# EAGLE library part SLW-116-01-T-D (library SLW-116-01-T-D)
32 Position, .100" Tiger Buy™ Low Profile Socket Strip, Single-Row Source: Datasheet <http://suddendocs.samtec.com/prints/slw-1xx-01-x-x-mkt.pdf>
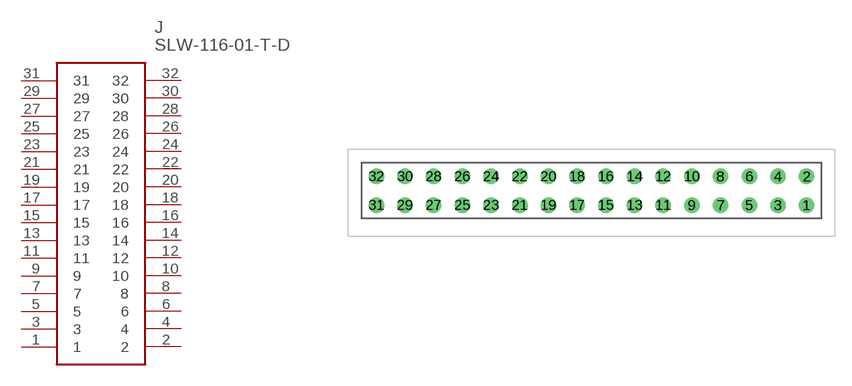
[diagram p0: symbol with the pads of SLW-116-01-X; footprint SLW-116-01-X]

Designator prefix J

## SLW-116-01-T-D (Description: 32 Position, .100&quot; Tiger Buy&trade; Low Profile Socket Strip, Single-Row; Height: mm; Manufacturer_Name: SAMTEC; Manufacturer_Part_Number: SLW-116-01-T-D; Mouser_Part_Number: 200-SLW11601TD; Mouser_Price-Stock: https://www.mouser.co.uk/ProductDetail/Samtec/SLW-116-01-T-D?qs=rU5fayqh%252BE2OQX3w8Tc2Ew%3D%3D)  [SLW-116-01-X]
1  1
2  2
3  3
4  4
5  5
6  6
7  7
8  8
9  9
10  10
11  11
12  12
13  13
14  14
15  15
16  16
17  17
18  18
19  19
20  20
21  21
22  22
23  23
24  24
25  25
26  26
27  27
28  28
29  29
30  30
31  31
32  32

## Footprint SLW-116-01-X (pad centres in mm)
SLW-116-01-X-D
drill 0.86 pad 1.3: 1 0,0; 2 0,2.54; 3 -2.54,0; 4 -2.54,2.54; 5 -5.08,0; 6 -5.08,2.54; 7 -7.62,0; 8 -7.62,2.54; 9 -10.16,0; 10 -10.16,2.54; 11 -12.7,0; 12 -12.7,2.54; 13 -15.24,0; 14 -15.24,2.54; 15 -17.78,0; 16 -17.78,2.54; 17 -20.32,0; 18 -20.32,2.54; 19 -22.86,0; 20 -22.86,2.54; 21 -25.4,0; 22 -25.4,2.54; 23 -27.94,0; 24 -27.94,2.54; 25 -30.48,0; 26 -30.48,2.54; 27 -33.02,0; 28 -33.02,2.54; 29 -35.56,0; 30 -35.56,2.54; 31 -38.1,0; 32 -38.1,2.54